# Altium schematic symbol library max30102.SchLib: 1 symbol
Pins are listed as number, name and electrical type; pins without a type are passive.

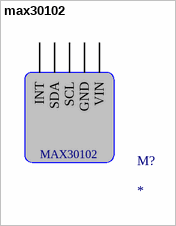
[diagram p0: symbol max30102]

## max30102
designator M?
footprint max30102
pins: 0 INT, 1 SDA, 2 SCL, 3 GND, 4 VIN
text: MAX30102